# Altium footprint library LT-CHARGE+1.PcbLib: 9 footprints
Each footprint in its own frame and in the unit in brackets; x right, y up, seen from the top. Pads: shape width x height; smd on the part's side, far side on the other; paste and mask are expansions set on the pad; w line width, h text height; cw(c..) or ccw(c..) is an arc to the next point about the centre after c.
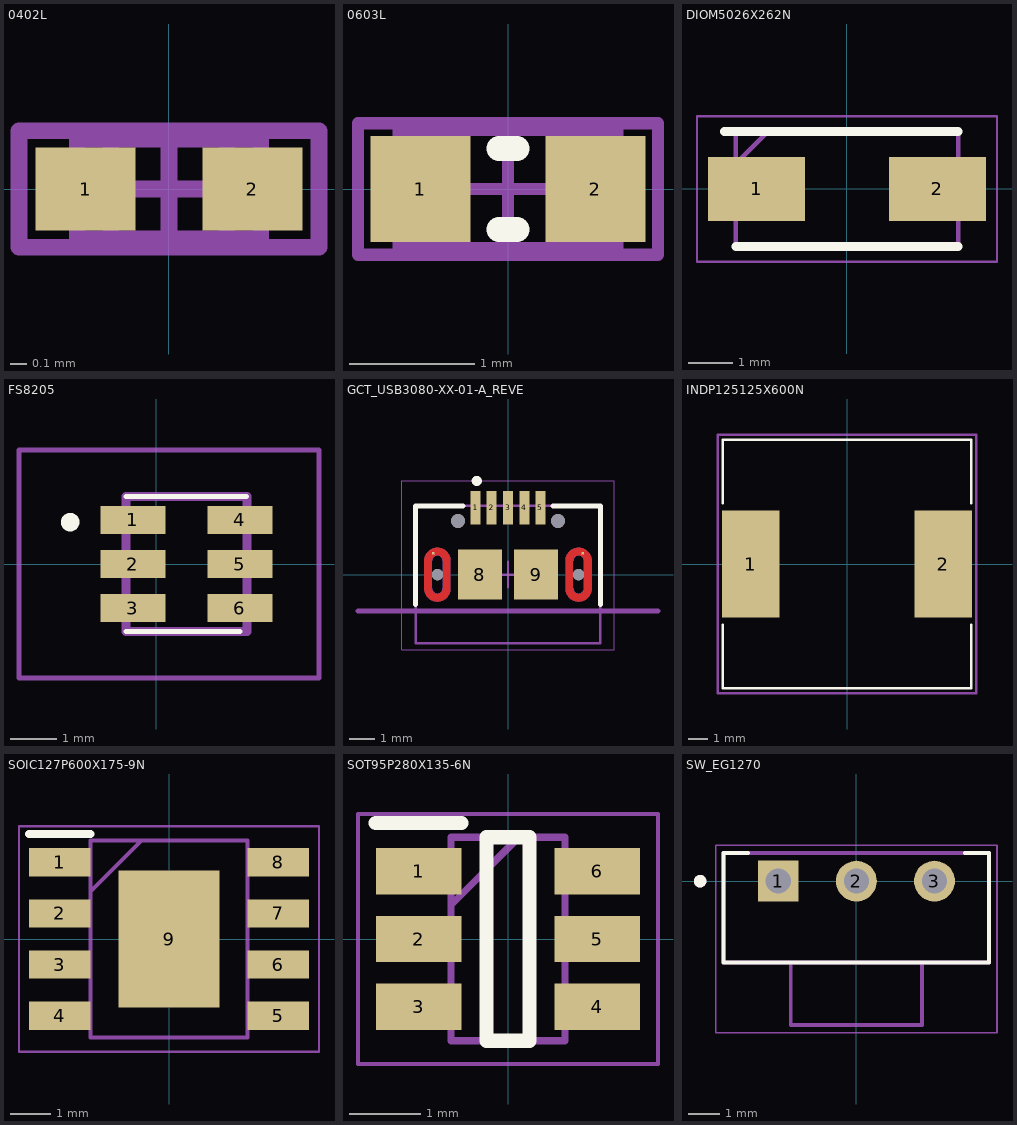
[diagram p0: the footprints below, top view; thin cyan lines are the x and y axes]

## 0402L [mm]
pads (2):
  rect 0.6x0.5 smd: 1(-0.5,0) 2(0.5,0)
Top 3D Body:
  lines w0.1: -0.9,-0.35 -0.9,0.35 0.9,0.35 0.9,-0.35 -0.9,-0.35
  text ".Designator" at -0.775,-0.225 h0.85
Mechanical 13:
  lines w0.1: -0.35,-0.3 -0.35,0.3 ; 0.35,-0.3 0.35,0.3 ; -0.55,-0.3 0.55,-0.3 0.55,0.3 -0.55,0.3 -0.55,-0.3
Mechanical 15:
  lines w0.1: -0.3,0 0.3,0 ; 0,-0.3 0,0.3 ; -0.9,-0.35 0.9,-0.35 0.9,0.35 -0.9,0.35 -0.9,-0.35
3D body: height 0.6, standoff 0, extent -0.549,-0.299 -0.351,0.299
3D body: height 0.6, standoff 0, extent -0.349,-0.299 0.349,0.299
3D body: height 0.6, standoff 0, extent 0.351,-0.299 0.549,0.299

## 0603L [mm]
pads (2):
  rect 0.8x0.85 smd: 1(-0.7,0) 2(0.7,0)
Top Overlay:
  lines w0.2: -0.071,-0.325 0.071,-0.325 ; -0.071,0.325 0.071,0.325
Mechanical 5:
  lines w0.1: -1.2,-0.525 -1.2,0.525 1.2,0.525 1.2,-0.525 -1.2,-0.525
  text ".Designator" at -1.05,-0.275 h0.56
Mechanical 13:
  lines w0.1: -0.55,-0.475 -0.55,0.475 ; 0.55,-0.475 0.55,0.475 ; -0.875,-0.475 -0.875,0.475 0.875,0.475 0.875,-0.475 -0.875,-0.475
Mechanical 15:
  lines w0.1: -0.475,0 0.475,0 ; 0,-0.475 0,0.475 ; -1.2,-0.525 1.2,-0.525 1.2,0.525 -1.2,0.525 -1.2,-0.525
3D body: height 1, standoff 0, extent 0.551,-0.474 0.874,0.474
3D body: height 1, standoff 0, extent -0.549,-0.474 0.549,0.474
3D body: height 1, standoff 0, extent -0.874,-0.474 -0.551,0.474

## DIOM5026X262N [mm]
pads (2):
  rect 2.2x1.45 smd: 1(-2.05,0) 2(2.05,0)
Top Overlay:
  lines w0.2: -2.775,1.3 2.52,1.3 ; -2.52,-1.3 2.52,-1.3
Mechanical 13:
  lines w0.1: -2.52,0.575 -1.795,1.3 ; -2.52,-1.3 2.52,-1.3 2.52,1.3 -2.52,1.3 -2.52,-1.3
Mechanical 15:
  lines w0.05: -3.4,-1.65 3.4,-1.65 3.4,1.65 -3.4,1.65 -3.4,-1.65
3D body "SS54.stp": height 2.62, standoff 0, extent -2.52,-1.3 2.52,1.3

## FS8205 [mm]
pads (6):
  rect 1.4x0.6 smd: 1(-0.5,0.95) 2(-0.5,0) 3(-0.5,-0.95) 4(1.8,0.95) 5(1.8,0) 6(1.8,-0.95)
Top Overlay:
  lines w0.1: -0.65,-1.45 1.8,-1.45 ; -0.65,1.45 1.95,1.45
  lines w0.2: -1.85,0.8 ccw(c-1.85,0.9) -1.85,1 ccw(c-1.85,0.9) -1.85,0.8
Mechanical 13:
  lines w0.2: -0.65,-1.45 -0.65,1.45 1.95,1.45 1.95,-1.45 -0.65,-1.45
Mechanical 15:
  lines w0.1: -2.95,-2.45 -2.95,2.45 3.5,2.45 3.5,-2.45 -2.95,-2.45
3D body "FS8205.stp": height 1.46, standoff 0.01, extent -0.79,-1.45 2.01,1.45

## GCT_USB3080-XX-01-A_REVE [mm]
pads (13):
  rect 0.4x1.35 smd: 1(-1.3,2.68) 2(-0.65,2.68) 3(0,2.68) 4(0.65,2.68) 5(1.3,2.68)
  rect 0.1x0.1 smd paste-1 mask+0: 6(-3,0.85) 7(3,0.85)
  rect 1.75x2 smd: 8(-1.125,0) 9(1.125,0)
  round 0.45 hole 0.45 unplated: ""(-2.825,0) ""(2.825,0)
  round 0.55 hole 0.55 unplated: ""(-2,2.15) ""(2,2.15)
Top Layer:
  region: -2.798,1.074 -2.77,1.072 -2.743,1.069 -2.716,1.064 -2.689,1.057 -2.663,1.049 -2.637,1.04 -2.611,1.03 -2.587,1.018 -2.562,1.005 -2.539,0.99 -2.516,0.975 -2.495,0.958 -2.474,0.94 -2.454,0.921 -2.435,0.901 -2.417,0.88 -2.4,0.859 -2.385,0.836 -2.37,0.813 -2.357,0.788 -2.345,0.764 -2.335,0.738 -2.326,0.712 -2.318,0.686 -2.311,0.659 -2.306,0.632 -2.303,0.605 -2.301,0.577 -2.3,0.55 -2.3,0 -2.6,0 -2.6,0.55 -2.6,0.562 -2.601,0.574 -2.603,0.585 -2.605,0.597 -2.608,0.608 -2.611,0.62 -2.615,0.631 -2.619,0.642 -2.625,0.652 -2.63,0.663 -2.636,0.673 -2.643,0.682 -2.65,0.692 -2.658,0.701 -2.666,0.709 -2.674,0.717 -2.683,0.725 -2.693,0.732 -2.702,0.739 -2.712,0.745 -2.723,0.75 -2.733,0.756 -2.744,0.76 -2.755,0.764 -2.767,0.767 -2.778,0.77 -2.79,0.772 -2.801,0.774 -2.813,0.775 -2.825,0.775 -2.837,0.775 -2.849,0.774 -2.86,0.772 -2.872,0.77 -2.883,0.767 -2.895,0.764 -2.906,0.76 -2.917,0.756 -2.927,0.75 -2.937,0.745 -2.948,0.739 -2.957,0.732 -2.967,0.725 -2.976,0.717 -2.984,0.709 -2.992,0.701 -3,0.692 -3.007,0.682 -3.014,0.673 -3.02,0.663 -3.025,0.652 -3.031,0.642 -3.035,0.631 -3.039,0.62 -3.042,0.608 -3.045,0.597 -3.047,0.585 -3.049,0.574 -3.05,0.562 -3.05,0.55 -3.05,0 -3.35,0 -3.35,0.55 -3.349,0.577 -3.347,0.605 -3.344,0.632 -3.339,0.659 -3.332,0.686 -3.324,0.712 -3.315,0.738 -3.305,0.764 -3.293,0.788 -3.28,0.813 -3.265,0.836 -3.25,0.859 -3.233,0.88 -3.215,0.901 -3.196,0.921 -3.176,0.94 -3.155,0.958 -3.134,0.975 -3.111,0.99 -3.087,1.005 -3.063,1.018 -3.039,1.03 -3.013,1.04 -2.987,1.049 -2.961,1.057 -2.934,1.064 -2.907,1.069 -2.88,1.072 -2.852,1.074 -2.825,1.075
  region: -2.3,-0.55 -2.301,-0.577 -2.303,-0.605 -2.306,-0.632 -2.311,-0.659 -2.318,-0.686 -2.326,-0.712 -2.335,-0.738 -2.345,-0.764 -2.357,-0.788 -2.37,-0.813 -2.385,-0.836 -2.4,-0.859 -2.417,-0.88 -2.435,-0.901 -2.454,-0.921 -2.474,-0.94 -2.495,-0.958 -2.516,-0.975 -2.539,-0.99 -2.562,-1.005 -2.587,-1.018 -2.611,-1.03 -2.637,-1.04 -2.663,-1.049 -2.689,-1.057 -2.716,-1.064 -2.743,-1.069 -2.77,-1.072 -2.798,-1.074 -2.825,-1.075 -2.852,-1.074 -2.88,-1.072 -2.907,-1.069 -2.934,-1.064 -2.961,-1.057 -2.987,-1.049 -3.013,-1.04 -3.039,-1.03 -3.063,-1.018 -3.087,-1.005 -3.111,-0.99 -3.134,-0.975 -3.155,-0.958 -3.176,-0.94 -3.196,-0.921 -3.215,-0.901 -3.233,-0.88 -3.25,-0.859 -3.265,-0.836 -3.28,-0.813 -3.293,-0.788 -3.305,-0.764 -3.315,-0.738 -3.324,-0.712 -3.332,-0.686 -3.339,-0.659 -3.344,-0.632 -3.347,-0.605 -3.349,-0.577 -3.35,-0.55 -3.35,0 -3.05,0 -3.05,-0.55 -3.05,-0.562 -3.049,-0.574 -3.047,-0.585 -3.045,-0.597 -3.042,-0.608 -3.039,-0.62 -3.035,-0.631 -3.031,-0.642 -3.025,-0.652 -3.02,-0.663 -3.014,-0.673 -3.007,-0.682 -3,-0.692 -2.992,-0.701 -2.984,-0.709 -2.976,-0.717 -2.967,-0.725 -2.957,-0.732 -2.948,-0.739 -2.937,-0.745 -2.927,-0.75 -2.917,-0.756 -2.906,-0.76 -2.895,-0.764 -2.883,-0.767 -2.872,-0.77 -2.86,-0.772 -2.849,-0.774 -2.837,-0.775 -2.825,-0.775 -2.813,-0.775 -2.801,-0.774 -2.79,-0.772 -2.778,-0.77 -2.767,-0.767 -2.755,-0.764 -2.744,-0.76 -2.733,-0.756 -2.723,-0.75 -2.712,-0.745 -2.702,-0.739 -2.693,-0.732 -2.683,-0.725 -2.674,-0.717 -2.666,-0.709 -2.658,-0.701 -2.65,-0.692 -2.643,-0.682 -2.636,-0.673 -2.63,-0.663 -2.625,-0.652 -2.619,-0.642 -2.615,-0.631 -2.611,-0.62 -2.608,-0.608 -2.605,-0.597 -2.603,-0.585 -2.601,-0.574 -2.6,-0.562 -2.6,-0.55 -2.6,0 -2.3,0
  region: 2.852,1.074 2.88,1.072 2.907,1.069 2.934,1.064 2.961,1.057 2.987,1.049 3.013,1.04 3.039,1.03 3.063,1.018 3.087,1.005 3.111,0.99 3.134,0.975 3.155,0.958 3.176,0.94 3.196,0.921 3.215,0.901 3.233,0.88 3.25,0.859 3.265,0.836 3.28,0.813 3.293,0.788 3.305,0.764 3.315,0.738 3.324,0.712 3.332,0.686 3.339,0.659 3.344,0.632 3.347,0.605 3.349,0.577 3.35,0.55 3.35,0 3.05,0 3.05,0.55 3.05,0.562 3.049,0.574 3.047,0.585 3.045,0.597 3.042,0.608 3.039,0.62 3.035,0.631 3.031,0.642 3.025,0.652 3.02,0.663 3.014,0.673 3.007,0.682 3,0.692 2.992,0.701 2.984,0.709 2.976,0.717 2.967,0.725 2.957,0.732 2.948,0.739 2.937,0.745 2.927,0.75 2.917,0.756 2.906,0.76 2.895,0.764 2.883,0.767 2.872,0.77 2.86,0.772 2.849,0.774 2.837,0.775 2.825,0.775 2.813,0.775 2.801,0.774 2.79,0.772 2.778,0.77 2.767,0.767 2.755,0.764 2.744,0.76 2.733,0.756 2.723,0.75 2.712,0.745 2.702,0.739 2.693,0.732 2.683,0.725 2.674,0.717 2.666,0.709 2.658,0.701 2.65,0.692 2.643,0.682 2.636,0.673 2.63,0.663 2.625,0.652 2.619,0.642 2.615,0.631 2.611,0.62 2.608,0.608 2.605,0.597 2.603,0.585 2.601,0.574 2.6,0.562 2.6,0.55 2.6,0 2.3,0 2.3,0.55 2.301,0.577 2.303,0.605 2.306,0.632 2.311,0.659 2.318,0.686 2.326,0.712 2.335,0.738 2.345,0.764 2.357,0.788 2.37,0.813 2.385,0.836 2.4,0.859 2.417,0.88 2.435,0.901 2.454,0.921 2.474,0.94 2.495,0.958 2.516,0.975 2.539,0.99 2.562,1.005 2.587,1.018 2.611,1.03 2.637,1.04 2.663,1.049 2.689,1.057 2.716,1.064 2.743,1.069 2.77,1.072 2.798,1.074 2.825,1.075
  region: 3.35,-0.55 3.349,-0.577 3.347,-0.605 3.344,-0.632 3.339,-0.659 3.332,-0.686 3.324,-0.712 3.315,-0.738 3.305,-0.764 3.293,-0.788 3.28,-0.813 3.265,-0.836 3.25,-0.859 3.233,-0.88 3.215,-0.901 3.196,-0.921 3.176,-0.94 3.155,-0.958 3.134,-0.975 3.111,-0.99 3.087,-1.005 3.063,-1.018 3.039,-1.03 3.013,-1.04 2.987,-1.049 2.961,-1.057 2.934,-1.064 2.907,-1.069 2.88,-1.072 2.852,-1.074 2.825,-1.075 2.798,-1.074 2.77,-1.072 2.743,-1.069 2.716,-1.064 2.689,-1.057 2.663,-1.049 2.637,-1.04 2.611,-1.03 2.587,-1.018 2.562,-1.005 2.539,-0.99 2.516,-0.975 2.495,-0.958 2.474,-0.94 2.454,-0.921 2.435,-0.901 2.417,-0.88 2.4,-0.859 2.385,-0.836 2.37,-0.813 2.357,-0.788 2.345,-0.764 2.335,-0.738 2.326,-0.712 2.318,-0.686 2.311,-0.659 2.306,-0.632 2.303,-0.605 2.301,-0.577 2.3,-0.55 2.3,0 2.6,0 2.6,-0.55 2.6,-0.562 2.601,-0.574 2.603,-0.585 2.605,-0.597 2.608,-0.608 2.611,-0.62 2.615,-0.631 2.619,-0.642 2.625,-0.652 2.63,-0.663 2.636,-0.673 2.643,-0.682 2.65,-0.692 2.658,-0.701 2.666,-0.709 2.674,-0.717 2.683,-0.725 2.693,-0.732 2.702,-0.739 2.712,-0.745 2.723,-0.75 2.733,-0.756 2.744,-0.76 2.755,-0.764 2.767,-0.767 2.778,-0.77 2.79,-0.772 2.801,-0.774 2.813,-0.775 2.825,-0.775 2.837,-0.775 2.849,-0.774 2.86,-0.772 2.872,-0.77 2.883,-0.767 2.895,-0.764 2.906,-0.76 2.917,-0.756 2.927,-0.75 2.937,-0.745 2.948,-0.739 2.957,-0.732 2.967,-0.725 2.976,-0.717 2.984,-0.709 2.992,-0.701 3,-0.692 3.007,-0.682 3.014,-0.673 3.02,-0.663 3.025,-0.652 3.031,-0.642 3.035,-0.631 3.039,-0.62 3.042,-0.608 3.045,-0.597 3.047,-0.585 3.049,-0.574 3.05,-0.562 3.05,-0.55 3.05,0 3.35,0
Bottom Layer:
  region: -2.798,1.074 -2.77,1.072 -2.743,1.069 -2.716,1.064 -2.689,1.057 -2.663,1.049 -2.637,1.04 -2.611,1.03 -2.587,1.018 -2.562,1.005 -2.539,0.99 -2.516,0.975 -2.495,0.958 -2.474,0.94 -2.454,0.921 -2.435,0.901 -2.417,0.88 -2.4,0.859 -2.385,0.836 -2.37,0.813 -2.357,0.788 -2.345,0.764 -2.335,0.738 -2.326,0.712 -2.318,0.686 -2.311,0.659 -2.306,0.632 -2.303,0.605 -2.301,0.577 -2.3,0.55 -2.3,0 -2.6,0 -2.6,0.55 -2.6,0.562 -2.601,0.574 -2.603,0.585 -2.605,0.597 -2.608,0.608 -2.611,0.62 -2.615,0.631 -2.619,0.642 -2.625,0.652 -2.63,0.663 -2.636,0.673 -2.643,0.682 -2.65,0.692 -2.658,0.701 -2.666,0.709 -2.674,0.717 -2.683,0.725 -2.693,0.732 -2.702,0.739 -2.712,0.745 -2.723,0.75 -2.733,0.756 -2.744,0.76 -2.755,0.764 -2.767,0.767 -2.778,0.77 -2.79,0.772 -2.801,0.774 -2.813,0.775 -2.825,0.775 -2.837,0.775 -2.849,0.774 -2.86,0.772 -2.872,0.77 -2.883,0.767 -2.895,0.764 -2.906,0.76 -2.917,0.756 -2.927,0.75 -2.937,0.745 -2.948,0.739 -2.957,0.732 -2.967,0.725 -2.976,0.717 -2.984,0.709 -2.992,0.701 -3,0.692 -3.007,0.682 -3.014,0.673 -3.02,0.663 -3.025,0.652 -3.031,0.642 -3.035,0.631 -3.039,0.62 -3.042,0.608 -3.045,0.597 -3.047,0.585 -3.049,0.574 -3.05,0.562 -3.05,0.55 -3.05,0 -3.35,0 -3.35,0.55 -3.349,0.577 -3.347,0.605 -3.344,0.632 -3.339,0.659 -3.332,0.686 -3.324,0.712 -3.315,0.738 -3.305,0.764 -3.293,0.788 -3.28,0.813 -3.265,0.836 -3.25,0.859 -3.233,0.88 -3.215,0.901 -3.196,0.921 -3.176,0.94 -3.155,0.958 -3.134,0.975 -3.111,0.99 -3.087,1.005 -3.063,1.018 -3.039,1.03 -3.013,1.04 -2.987,1.049 -2.961,1.057 -2.934,1.064 -2.907,1.069 -2.88,1.072 -2.852,1.074 -2.825,1.075
  region: -2.3,-0.55 -2.301,-0.577 -2.303,-0.605 -2.306,-0.632 -2.311,-0.659 -2.318,-0.686 -2.326,-0.712 -2.335,-0.738 -2.345,-0.764 -2.357,-0.788 -2.37,-0.813 -2.385,-0.836 -2.4,-0.859 -2.417,-0.88 -2.435,-0.901 -2.454,-0.921 -2.474,-0.94 -2.495,-0.958 -2.516,-0.975 -2.539,-0.99 -2.562,-1.005 -2.587,-1.018 -2.611,-1.03 -2.637,-1.04 -2.663,-1.049 -2.689,-1.057 -2.716,-1.064 -2.743,-1.069 -2.77,-1.072 -2.798,-1.074 -2.825,-1.075 -2.852,-1.074 -2.88,-1.072 -2.907,-1.069 -2.934,-1.064 -2.961,-1.057 -2.987,-1.049 -3.013,-1.04 -3.039,-1.03 -3.063,-1.018 -3.087,-1.005 -3.111,-0.99 -3.134,-0.975 -3.155,-0.958 -3.176,-0.94 -3.196,-0.921 -3.215,-0.901 -3.233,-0.88 -3.25,-0.859 -3.265,-0.836 -3.28,-0.813 -3.293,-0.788 -3.305,-0.764 -3.315,-0.738 -3.324,-0.712 -3.332,-0.686 -3.339,-0.659 -3.344,-0.632 -3.347,-0.605 -3.349,-0.577 -3.35,-0.55 -3.35,0 -3.05,0 -3.05,-0.55 -3.05,-0.562 -3.049,-0.574 -3.047,-0.585 -3.045,-0.597 -3.042,-0.608 -3.039,-0.62 -3.035,-0.631 -3.031,-0.642 -3.025,-0.652 -3.02,-0.663 -3.014,-0.673 -3.007,-0.682 -3,-0.692 -2.992,-0.701 -2.984,-0.709 -2.976,-0.717 -2.967,-0.725 -2.957,-0.732 -2.948,-0.739 -2.937,-0.745 -2.927,-0.75 -2.917,-0.756 -2.906,-0.76 -2.895,-0.764 -2.883,-0.767 -2.872,-0.77 -2.86,-0.772 -2.849,-0.774 -2.837,-0.775 -2.825,-0.775 -2.813,-0.775 -2.801,-0.774 -2.79,-0.772 -2.778,-0.77 -2.767,-0.767 -2.755,-0.764 -2.744,-0.76 -2.733,-0.756 -2.723,-0.75 -2.712,-0.745 -2.702,-0.739 -2.693,-0.732 -2.683,-0.725 -2.674,-0.717 -2.666,-0.709 -2.658,-0.701 -2.65,-0.692 -2.643,-0.682 -2.636,-0.673 -2.63,-0.663 -2.625,-0.652 -2.619,-0.642 -2.615,-0.631 -2.611,-0.62 -2.608,-0.608 -2.605,-0.597 -2.603,-0.585 -2.601,-0.574 -2.6,-0.562 -2.6,-0.55 -2.6,0 -2.3,0
  region: 2.852,1.074 2.88,1.072 2.907,1.069 2.934,1.064 2.961,1.057 2.987,1.049 3.013,1.04 3.039,1.03 3.063,1.018 3.087,1.005 3.111,0.99 3.134,0.975 3.155,0.958 3.176,0.94 3.196,0.921 3.215,0.901 3.233,0.88 3.25,0.859 3.265,0.836 3.28,0.813 3.293,0.788 3.305,0.764 3.315,0.738 3.324,0.712 3.332,0.686 3.339,0.659 3.344,0.632 3.347,0.605 3.349,0.577 3.35,0.55 3.35,0 3.05,0 3.05,0.55 3.05,0.562 3.049,0.574 3.047,0.585 3.045,0.597 3.042,0.608 3.039,0.62 3.035,0.631 3.031,0.642 3.025,0.652 3.02,0.663 3.014,0.673 3.007,0.682 3,0.692 2.992,0.701 2.984,0.709 2.976,0.717 2.967,0.725 2.957,0.732 2.948,0.739 2.937,0.745 2.927,0.75 2.917,0.756 2.906,0.76 2.895,0.764 2.883,0.767 2.872,0.77 2.86,0.772 2.849,0.774 2.837,0.775 2.825,0.775 2.813,0.775 2.801,0.774 2.79,0.772 2.778,0.77 2.767,0.767 2.755,0.764 2.744,0.76 2.733,0.756 2.723,0.75 2.712,0.745 2.702,0.739 2.693,0.732 2.683,0.725 2.674,0.717 2.666,0.709 2.658,0.701 2.65,0.692 2.643,0.682 2.636,0.673 2.63,0.663 2.625,0.652 2.619,0.642 2.615,0.631 2.611,0.62 2.608,0.608 2.605,0.597 2.603,0.585 2.601,0.574 2.6,0.562 2.6,0.55 2.6,0 2.3,0 2.3,0.55 2.301,0.577 2.303,0.605 2.306,0.632 2.311,0.659 2.318,0.686 2.326,0.712 2.335,0.738 2.345,0.764 2.357,0.788 2.37,0.813 2.385,0.836 2.4,0.859 2.417,0.88 2.435,0.901 2.454,0.921 2.474,0.94 2.495,0.958 2.516,0.975 2.539,0.99 2.562,1.005 2.587,1.018 2.611,1.03 2.637,1.04 2.663,1.049 2.689,1.057 2.716,1.064 2.743,1.069 2.77,1.072 2.798,1.074 2.825,1.075
  region: 3.35,-0.55 3.349,-0.577 3.347,-0.605 3.344,-0.632 3.339,-0.659 3.332,-0.686 3.324,-0.712 3.315,-0.738 3.305,-0.764 3.293,-0.788 3.28,-0.813 3.265,-0.836 3.25,-0.859 3.233,-0.88 3.215,-0.901 3.196,-0.921 3.176,-0.94 3.155,-0.958 3.134,-0.975 3.111,-0.99 3.087,-1.005 3.063,-1.018 3.039,-1.03 3.013,-1.04 2.987,-1.049 2.961,-1.057 2.934,-1.064 2.907,-1.069 2.88,-1.072 2.852,-1.074 2.825,-1.075 2.798,-1.074 2.77,-1.072 2.743,-1.069 2.716,-1.064 2.689,-1.057 2.663,-1.049 2.637,-1.04 2.611,-1.03 2.587,-1.018 2.562,-1.005 2.539,-0.99 2.516,-0.975 2.495,-0.958 2.474,-0.94 2.454,-0.921 2.435,-0.901 2.417,-0.88 2.4,-0.859 2.385,-0.836 2.37,-0.813 2.357,-0.788 2.345,-0.764 2.335,-0.738 2.326,-0.712 2.318,-0.686 2.311,-0.659 2.306,-0.632 2.303,-0.605 2.301,-0.577 2.3,-0.55 2.3,0 2.6,0 2.6,-0.55 2.6,-0.562 2.601,-0.574 2.603,-0.585 2.605,-0.597 2.608,-0.608 2.611,-0.62 2.615,-0.631 2.619,-0.642 2.625,-0.652 2.63,-0.663 2.636,-0.673 2.643,-0.682 2.65,-0.692 2.658,-0.701 2.666,-0.709 2.674,-0.717 2.683,-0.725 2.693,-0.732 2.702,-0.739 2.712,-0.745 2.723,-0.75 2.733,-0.756 2.744,-0.76 2.755,-0.764 2.767,-0.767 2.778,-0.77 2.79,-0.772 2.801,-0.774 2.813,-0.775 2.825,-0.775 2.837,-0.775 2.849,-0.774 2.86,-0.772 2.872,-0.77 2.883,-0.767 2.895,-0.764 2.906,-0.76 2.917,-0.756 2.927,-0.75 2.937,-0.745 2.948,-0.739 2.957,-0.732 2.967,-0.725 2.976,-0.717 2.984,-0.709 2.992,-0.701 3,-0.692 3.007,-0.682 3.014,-0.673 3.02,-0.663 3.025,-0.652 3.031,-0.642 3.035,-0.631 3.039,-0.62 3.042,-0.608 3.045,-0.597 3.047,-0.585 3.049,-0.574 3.05,-0.562 3.05,-0.55 3.05,0 3.35,0
Top Overlay:
  circle w0.2: c-1.25,3.75 r0.102
  lines w0.2: -3.7,-1.2 -3.7,2.75 -1.8,2.75 ; 1.8,2.75 3.7,2.75 3.7,-1.2
Top Paste:
  drawing of 4 lines, arcs and shapes, not listed
Bottom Paste:
  drawing of 4 lines, arcs and shapes, not listed
Top Solder:
  region: -2.1,-1.301 -3.552,-1.301 -3.552,1.3 -2.1,1.3
  region: 3.55,-1.302 2.104,-1.302 2.104,1.3 3.55,1.3
Bottom Solder:
  region: -2.1,-1.303 -3.557,-1.303 -3.557,1.3 -2.1,1.3
  region: 3.55,-1.3 2.1,-1.3 2.1,1.3 3.55,1.3
Mechanical 1:
  lines w0: -3.05,-0.55 ccw(c-2.825,-0.55) -2.825,-0.775 ccw(c-2.825,-0.55) -2.6,-0.55 -2.6,0.55 ccw(c-2.825,0.55) -2.825,0.775 ccw(c-2.825,0.55) -3.05,0.55 -3.05,-0.55 ; 2.6,-0.55 ccw(c2.825,-0.55) 2.825,-0.775 ccw(c2.825,-0.55) 3.05,-0.55 3.05,0.55 ccw(c2.825,0.55) 2.825,0.775 ccw(c2.825,0.55) 2.6,0.55 2.6,-0.55
Mechanical 13:
  lines w0.1: -3.7,-2.75 3.7,-2.75 3.7,2.75 -3.7,2.75 -3.7,-2.75
  lines w0.2: -6,-1.45 6,-1.45
  text "PCB Edge" at -5.726,-2.545 h0.67
Mechanical 15:
  lines w0.05: -4.25,-3 4.25,-3 4.25,3.75 -4.25,3.75 -4.25,-3
  lines w0.1: -0.508,0 0.508,0 ; 0,-0.508 0,0.508
3D body "USB3090-30-A--3DModel-STEP-56544.STEP": height 2.71, standoff -1, extent -3.99,-1.944 3.81,3.556

## INDP125125X600N [mm]
pads (2):
  rect 2.9x5.4 smd: 1(-4.85,0) 2(4.85,0)
Top Overlay:
  lines w0.127: -6.25,-3.05 -6.25,-6.25 6.25,-6.25 6.25,-3.05 ; -6.25,3.05 -6.25,6.25 6.25,6.25 6.25,3.05
Mechanical 15:
  lines w0.127: -6.5,-6.5 -6.5,6.5 6.5,6.5 6.5,-6.5 -6.5,-6.5
3D body "srr1260-330m.stp": height 6, standoff 0, extent -6.25,-6.25 6.25,6.25

## SOIC127P600X175-9N [mm]
pads (9):
  rect 1.525x0.7 smd: 1(-2.712,1.905) 2(-2.712,0.635) 3(-2.712,-0.635) 4(-2.712,-1.905) 5(2.712,-1.905) 6(2.712,-0.635) 7(2.712,0.635) 8(2.712,1.905)
  rect 2.513x3.402 smd: 9(0,0)
Top Overlay:
  lines w0.2: -3.475,2.605 -1.95,2.605
Mechanical 13:
  lines w0.1: -1.95,1.18 -0.68,2.45 ; -1.95,-2.45 1.95,-2.45 1.95,2.45 -1.95,2.45 -1.95,-2.45
Mechanical 15:
  lines w0.05: -3.725,-2.8 3.725,-2.8 3.725,2.8 -3.725,2.8 -3.725,-2.8
3D body "TP4056-42-ESOP8.stp": height 1.75, standoff 0, extent -3,-2.45 3,2.45

## SOT95P280X135-6N [mm]
pads (6):
  rect 1.2x0.65 smd: 1(-1.25,0.95) 2(-1.25,0) 3(-1.25,-0.95) 4(1.25,-0.95) 5(1.25,0) 6(1.25,0.95)
Top Overlay:
  lines w0.2: -1.85,1.625 -0.65,1.625 ; -0.3,-1.425 0.3,-1.425 0.3,1.425 -0.3,1.425 -0.3,-1.425
Mechanical 13:
  lines w0.1: -0.8,0.475 0.15,1.425 ; -0.8,-1.425 0.8,-1.425 0.8,1.425 -0.8,1.425 -0.8,-1.425
Mechanical 15:
  lines w0.05: -2.1,-1.75 2.1,-1.75 2.1,1.75 -2.1,1.75 -2.1,-1.75
3D body "DW01A-G.stp": height 1.35, standoff 0, extent -1.4,-1.425 1.4,1.425

## SW_EG1270 [mm]
pads (3):
  rect 1.308x1.308 / inner round 1.308 / far side rect 1.308x1.308 hole 0.8: 1(-2.5,0)
  round 1.308 hole 0.8: 2(0,0) 3(2.5,0)
Top Overlay:
  circle w0.2: c-5,0 r0.1
  lines w0.127: -3.474,0.9 -4.25,0.9 -4.25,-2.6 4.25,-2.6 4.25,0.9 3.474,0.9
Mechanical 13:
  circle w0.2: c-5,0 r0.1
  lines w0.127: -2.1,-2.6 2.1,-2.6 ; -2.1,-2.6 -4.25,-2.6 -4.25,0.9 4.25,0.9 4.25,-2.6 2.1,-2.6 ; -2.1,-2.6 -2.1,-4.6 2.1,-4.6 2.1,-2.6
Mechanical 15:
  lines w0.05: -4.5,-4.85 -4.5,1.15 4.5,1.15 4.5,-4.85 -4.5,-4.85
3D body "step_temp.STEP": height 5.1, standoff -1.7, extent -4.25,-4.6 4.25,0.9